# Altium footprint library PowerSupply.PcbLib: 34 footprints (part 1 of 3)
Each footprint in its own frame and in the unit in brackets; x right, y up, seen from the top. Pads: shape width x height; smd on the part's side, far side on the other; paste and mask are expansions set on the pad; w line width, h text height; cw(c..) or ccw(c..) is an arc to the next point about the centre after c.
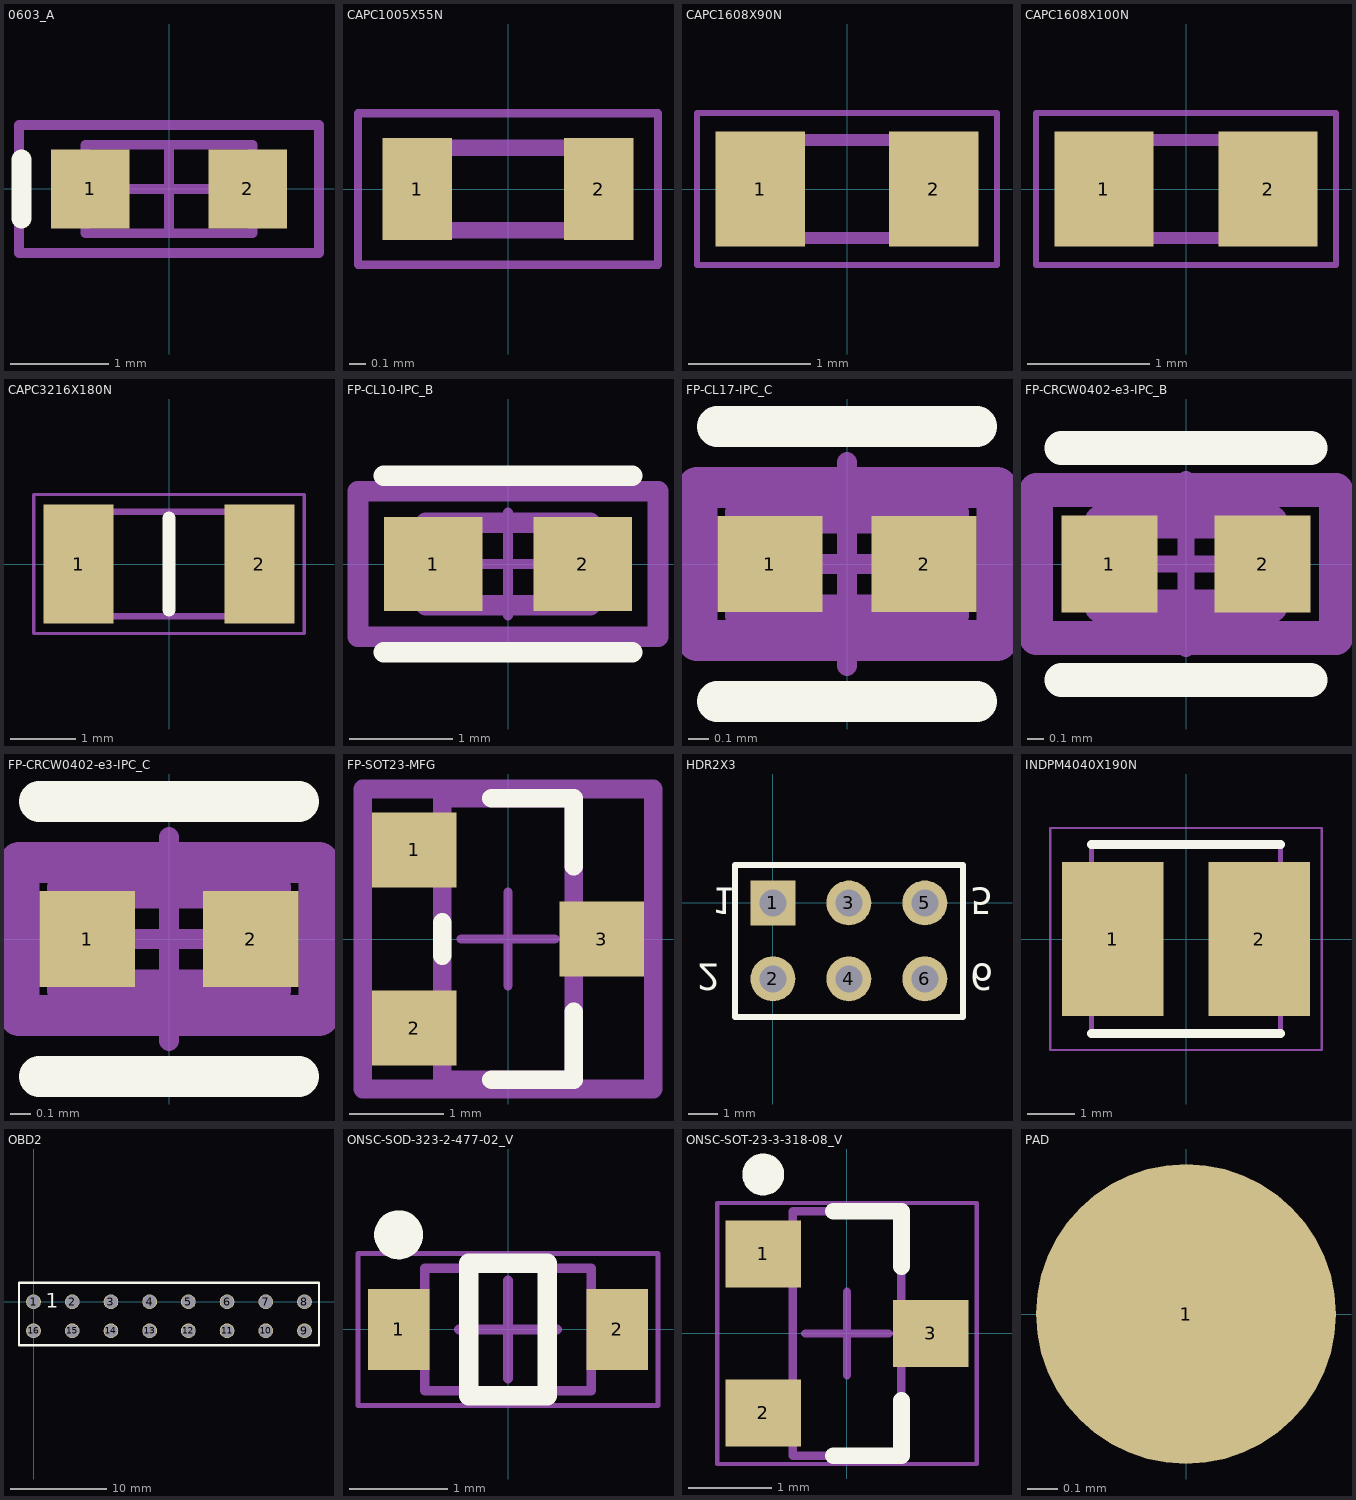
[diagram p0: the footprints below, top view; thin cyan lines are the x and y axes]

## 0603_A [mm]
pads (2):
  rect 0.8x0.8 smd: 1(-0.8,0) 2(0.8,0)
Top Overlay:
  lines w0.2: -1.5,-0.3 -1.5,0.3
Mechanical 13:
  lines w0.1: -0.85,-0.45 0.85,-0.45 0.85,0.45 -0.85,0.45 -0.85,-0.45
Mechanical 15:
  lines w0.1: -0.45,0 0.45,0 ; 0,-0.45 0,0.45 ; -1.525,-0.65 1.525,-0.65 1.525,0.65 -1.525,0.65 -1.525,-0.65
3D body "WL-SMCW_0603_LED.stp": height 0.7, standoff 0, extent -0.8,-0.4 0.8,0.4

## CAPC1005X55N [mm]
pads (2):
  rect 0.42x0.62 smd: 1(-0.55,0) 2(0.55,0)
Mechanical 13:
  lines w0.1: -0.5,-0.25 0.5,-0.25 0.5,0.25 -0.5,0.25 -0.5,-0.25
Mechanical 15:
  lines w0.05: -0.91,-0.46 0.91,-0.46 0.91,0.46 -0.91,0.46 -0.91,-0.46
3D body "C1005X5R1H104K050BB.stp": height 0.55, standoff 0, extent -0.5,-0.25 0.5,0.25

## CAPC1608X90N [mm]
pads (2):
  rect 0.73x0.94 smd: 1(-0.71,0) 2(0.71,0)
Mechanical 13:
  lines w0.1: -0.8,-0.4 -0.8,0.4 0.8,0.4 0.8,-0.4 -0.8,-0.4
Mechanical 15:
  lines w0.05: -1.225,-0.62 -1.225,0.62 1.225,0.62 1.225,-0.62 -1.225,-0.62
3D body "CL10A225KP8NNNC.stp": height 0.9, standoff 0, extent -0.8,-0.4 0.8,0.4

## CAPC1608X100N [mm]
pads (2):
  rect 0.81x0.94 smd: 1(-0.67,0) 2(0.67,0)
Mechanical 13:
  lines w0.1: -0.8,-0.4 -0.8,0.4 0.8,0.4 0.8,-0.4 -0.8,-0.4
Mechanical 15:
  lines w0.05: -1.225,-0.62 -1.225,0.62 1.225,0.62 1.225,-0.62 -1.225,-0.62
3D body "TMK107BBJ475MA-T.stp": height 1, standoff 0, extent -0.8,-0.4 0.8,0.4

## CAPC3216X180N [mm]
pads (2):
  rect 1.07x1.82 smd: 1(-1.38,0) 2(1.38,0)
Top Overlay:
  lines w0.2: 0,-0.7 0,0.7
Mechanical 13:
  lines w0.1: -1.6,-0.8 1.6,-0.8 1.6,0.8 -1.6,0.8 -1.6,-0.8
Mechanical 15:
  lines w0.05: -2.065,-1.06 2.065,-1.06 2.065,1.06 -2.065,1.06 -2.065,-1.06
3D body "GRM31CR61A476KE15L.stp": height 1.8, standoff 0, extent -1.6,-0.8 1.6,0.8

## FP-CL10-IPC_B [mm]
pads (2):
  rect 0.958x0.912 smd paste+0 mask+0: 1(-0.727,0) 2(0.727,0)
Top Overlay:
  lines w0.2: -1.206,-0.856 1.206,-0.856 ; -1.206,0.856 1.206,0.856
Top 3D Body:
  lines w0.2: -0.8,-0.4 -0.8,0.4 0.8,0.4 0.8,-0.4 -0.8,-0.4
Top Courtyard:
  lines w0.2: -1.456,-0.706 -1.456,0.706 1.456,0.706 1.456,-0.706 -1.456,-0.706
Top Assembly:
  lines w0.2: -1.456,-0.706 -1.456,0.706 1.456,0.706 1.456,-0.706 -1.456,-0.706
  text ".Designator" at 0,-0.188 h1
Top Component Center:
  lines w0.1: -0.5,0 0.5,0 ; 0,-0.5 0,0.5
3D body "Cap_Samsung_CL10B473KO8NNWC_eec.STEP": height 0.9, standoff 0, extent -0.8,-0.4 0.8,0.4

## FP-CL17-IPC_C [mm]
pads (2):
  rect 0.515x0.472 smd paste+0 mask+0: 1(-0.379,0) 2(0.379,0)
Top Overlay:
  lines w0.2: -0.636,-0.675 0.636,-0.675 ; -0.636,0.675 0.636,0.675
Top 3D Body:
  lines w0.2: -0.5,-0.25 -0.5,0.25 0.5,0.25 0.5,-0.25 -0.5,-0.25
Top Courtyard:
  lines w0.2: -0.736,-0.375 -0.736,0.375 0.736,0.375 0.736,-0.375 -0.736,-0.375
Top Assembly:
  lines w0.2: -0.736,-0.375 -0.736,0.375 0.736,0.375 0.736,-0.375 -0.736,-0.375
  text ".Designator" at 0,0.001 h1
Top Component Center:
  lines w0.1: -0.5,0 0.5,0 -0.5,0 ; 0,-0.5 0,0.5 0,-0.5
3D body "Cap_Samsung_CL05B104KP5NNNC_eec.STEP": height 0.55, standoff 0, extent -0.5,-0.25 0.5,0.25

## FP-CRCW0402-e3-IPC_B [mm]
pads (2):
  rect 0.568x0.572 smd paste+0 mask+0: 1(-0.452,0) 2(0.452,0)
Top Overlay:
  lines w0.2: -0.736,-0.686 0.736,-0.686 ; -0.736,0.686 0.736,0.686
Top 3D Body:
  lines w0.2: -0.5,-0.25 0.5,-0.25 0.5,0.25 -0.5,0.25 -0.5,-0.25
Top Courtyard:
  lines w0.2: -0.886,-0.436 0.886,-0.436 0.886,0.436 -0.886,0.436 -0.886,-0.436
Top Assembly:
  lines w0.2: -0.886,-0.436 0.886,-0.436 0.886,0.436 -0.886,0.436 -0.886,-0.436
  text ".Designator" at 0,-0.001 h1
Top Component Center:
  lines w0.1: -0.5,0 0.5,0 ; 0,-0.5 0,0.5

## FP-CRCW0402-e3-IPC_C [mm]
pads (2):
  rect 0.468x0.472 smd paste+0 mask+0: 1(-0.402,0) 2(0.402,0)
Top Overlay:
  lines w0.2: -0.636,-0.675 0.636,-0.675 ; -0.636,0.675 0.636,0.675
Top 3D Body:
  lines w0.2: -0.5,-0.25 0.5,-0.25 0.5,0.25 -0.5,0.25 -0.5,-0.25
Top Courtyard:
  lines w0.2: -0.736,-0.375 0.736,-0.375 0.736,0.375 -0.736,0.375 -0.736,-0.375
Top Assembly:
  lines w0.2: -0.736,-0.375 0.736,-0.375 0.736,0.375 -0.736,0.375 -0.736,-0.375
  text ".Designator" at 0,0.188 h1
Top Component Center:
  lines w0.1: -0.5,0 0.5,0 ; 0,-0.5 0,0.5
3D body "Res_Vishay_CRCW04021K00FKED_eec.STEP": height 0.25, standoff 0, extent -0.736,-0.375 0.736,0.375

## FP-SOT23-MFG [mm]
pads (3):
  rect 0.9x0.8 smd paste+0 mask+0: 1(-1,0.95) 2(-1,-0.95) 3(1,0)
Top Overlay:
  lines w0.2: -0.7,-0.175 -0.7,0.175 ; -0.175,-1.5 0.7,-1.5 0.7,-0.775 ; -0.175,1.5 0.7,1.5 0.7,0.775
Top 3D Body:
  lines w0.2: -0.7,-1.5 -0.7,1.5 0.7,1.5 0.7,-1.5 -0.7,-1.5
Top Courtyard:
  lines w0.2: -1.55,-1.6 -1.55,1.6 1.55,1.6 1.55,-1.6 -1.55,-1.6
Top Assembly:
  lines w0.2: -1.55,-1.6 -1.55,1.6 1.55,1.6 1.55,-1.6 -1.55,-1.6
  text ".Designator" at 0,-0.001 h1
Top Component Center:
  lines w0.1: -0.5,0 0.5,0 ; 0,-0.5 0,0.5
3D body "Trans_Diodes_Inc_DMP1045U-7_eec.STEP": height 0.25, standoff 0, extent -1.55,-1.6 1.55,1.6

## HDR2X3 [mm]
pads (6):
  rect 1.5x1.5 hole 0.9: 1(0,0)
  round 1.5 hole 0.9: 2(0,-2.54) 3(2.54,0) 4(2.54,-2.54) 5(5.08,0) 6(5.08,-2.54)
Top Overlay:
  lines w0.2: 1.482,1.27 6.35,1.27 ; 6.35,1.27 6.35,-3.81 -1.27,-3.81 -1.27,1.27 6.35,1.27
  text "6" at 6.604,-2.032 h0.89
  text "5" at 6.604,0.508 h0.89
  text "2" at -2.54,-2.032 h0.89
  text "1" at -2.032,0.508 h0.89

## INDPM4040X190N [mm]
pads (2):
  rect 2.15x3.25 smd: 1(-1.55,0) 2(1.55,0)
Top Overlay:
  lines w0.2: -2,-2 2,-2 ; -2,2 2,2
Mechanical 13:
  lines w0.1: -2,-2 -2,2 2,2 2,-2 -2,-2
Mechanical 15:
  lines w0.05: -2.875,-2.35 -2.875,2.35 2.875,2.35 2.875,-2.35 -2.875,-2.35
3D body "IFSC1515AHER4R7M01.stp": height 1.65, standoff -0.06, extent -1.975,-1.975 1.975,1.975

## OBD2 [mm]
pads (16):
  round 1.524 hole 1.35: 1(0,0) 2(4,0) 3(8,0) 4(12,0) 5(16,0) 6(20,0) 7(24,0) 8(28,0) 9(28,-3) 10(24,-3) 11(20,-3) 12(16,-3) 13(12,-3) 14(8,-3) 15(4,-3) 16(0,-3)
Top Overlay:
  lines w0.254: -1.5,1.905 -1.5,-4.5 29.5,-4.5 29.5,1.905 ; -1.5,1.975 29.5,1.975
  text "1" at 1.27,-0.635 h1.52
3D body "CR-PG016.stp": height 16.71, standoff -2.41, extent -6.506,-3.438 34.661,22.375

## ONSC-SOD-323-2-477-02_V [mm]
pads (2):
  rect 0.63x0.83 smd: 1(-1.115,0) 2(1.115,0)
Top Overlay:
  circle w0.25: c-1.115,0.965 r0.125
  lines w0.2: -0.4,-0.675 0.4,-0.675 0.4,0.675 -0.4,0.675 -0.4,-0.675
Mechanical 13:
  lines w0.1: -0.85,-0.625 0.85,-0.625 0.85,0.625 -0.85,0.625 -0.85,-0.625
Mechanical 15:
  lines w0.05: -1.53,-0.775 1.53,-0.775 1.53,0.775 -1.53,0.775 -1.53,-0.775
  lines w0.1: -0.5,0 0.5,0 ; 0,-0.5 0,0.5
3D body: height 1.06, standoff 0, extent -0.85,-0.625 0.85,0.625

## ONSC-SOT-23-3-318-08_V [mm]
pads (3):
  rect 0.9x0.8 smd: 1(-1,0.95) 2(-1,-0.95) 3(1,0)
Top Overlay:
  circle w0.25: c-1,1.9 r0.125
  lines w0.2: -0.165,-1.46 0.65,-1.46 0.65,-0.8 ; -0.165,1.46 0.65,1.46 0.65,0.8
Mechanical 13:
  lines w0.1: -0.65,-1.46 -0.65,1.46 0.65,1.46 0.65,-1.46 -0.65,-1.46
Mechanical 15:
  lines w0.05: -1.55,-1.56 -1.55,1.56 1.55,1.56 1.55,-1.56 -1.55,-1.56
  lines w0.1: -0.5,0 0.5,0 ; 0,-0.5 0,0.5
3D body: height 1.11, standoff 0.01, extent -0.65,-1.46 0.65,1.46

## PAD [mm]
pads (1):
  round 1 smd: 1(0,0)